# Altium footprint library Antenna_915Mhz.PcbLib: 3 footprints
Each footprint in its own frame and in the unit in brackets; x right, y up, seen from the top. Pads: shape width x height; smd on the part's side, far side on the other; paste and mask are expansions set on the pad; w line width, h text height; cw(c..) or ccw(c..) is an arc to the next point about the centre after c.
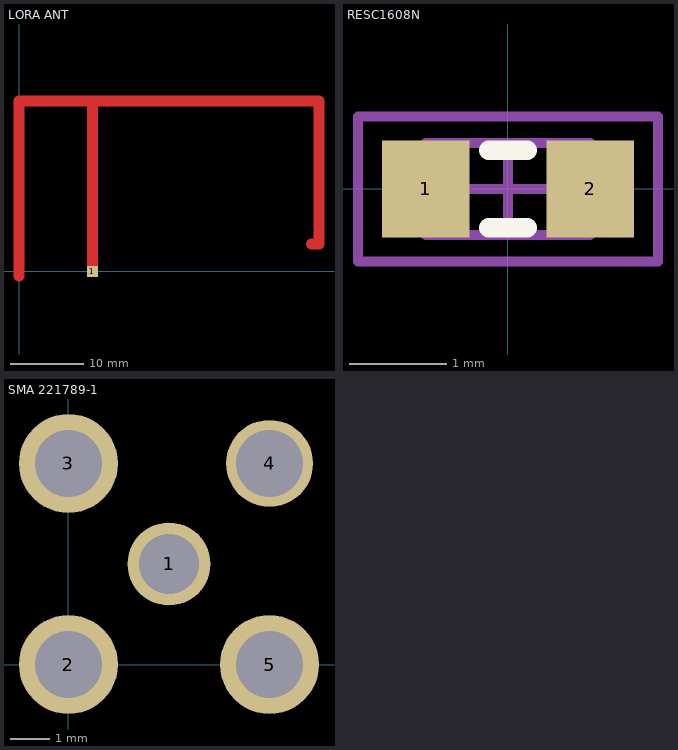
[diagram p0: the footprints below, top view; thin cyan lines are the x and y axes]

## LORA ANT [mm]
pads (1):
  rect 1.5x1.5 smd: 1(10.033,0)
Top Layer:
  lines w1.5: 0,-0.635 0,23.25 41,23.25 41,3.75 40.005,3.75 ; 10.033,0 10.033,23.25

## RESC1608N [mm] "Chip Resistor, Body 1.6x0.8mm, IPC Medium Density"
height 0.6
pads (2):
  rect 0.9x1 smd: 1(-0.85,0) 2(0.85,0)
Top Overlay:
  lines w0.2: -0.2,-0.4 0.2,-0.4 ; -0.2,0.4 0.2,0.4
Mechanical 13:
  lines w0.1: -0.85,-0.475 0.85,-0.475 0.85,0.475 -0.85,0.475 -0.85,-0.475
Mechanical 15:
  lines w0.1: -0.475,0 0.475,0 ; 0,-0.475 0,0.475 ; -1.55,-0.75 1.55,-0.75 1.55,0.75 -1.55,0.75 -1.55,-0.75
3D body: height 0.6, standoff 0, extent -0.85,-0.475 0.85,0.475

## SMA 221789-1 [mm] "CONN SMA JACK STR 50 OHM PCB"
pads (5):
  round 2.1 hole 1.52: 1(2.54,2.54)
  round 2.5 hole 1.7: 2(0,0) 3(0,5.08)
  round 2.2 hole 1.7: 4(5.08,5.08)
  round 2.5 hole 1.7 mask+0.102: 5(5.08,0)
3D body "c-0221789-01-e-3d.stp": height 9.53, standoff -3.94, extent -0.635,-0.635 5.715,5.715